# EAGLE library part MCP4725A0T-E/CH (library dummy-load)
MCP4725 Series 1 Ch I2C EEPROM Memory 5.5 V 12-Bit D/A Converter SMT - SOT-23-6 Check prices <https://pricing.snapeda.com/parts/MCP4725A0T-E/CH/Microchip%20Technology/view-part?ref=eda>
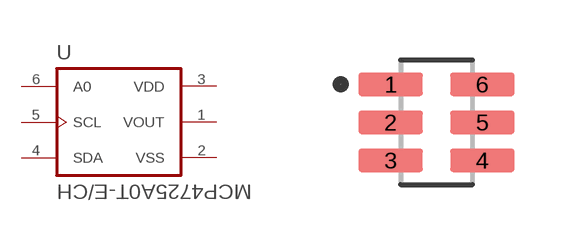
[diagram p1: symbol with the pads of SOT95P270X145-6N; footprint SOT95P270X145-6N]

Designator prefix U

## MCP4725A0T-E/CH (AVAILABILITY: Warning; DESCRIPTION: 12 Bit Digital to Analog Converter 1 SOT-23-6; MF: Microchip Technology; MP: MCP4725A0T-E/CH; PACKAGE: SOT-23-6 Microchip; PRICE: None; PURCHASE-URL: https://pricing.snapeda.com/search/part/MCP4725A0T-E/CH/?ref=eda)  [SOT95P270X145-6N]
1  VOUT  out
2  VSS  pwr
3  VDD  pwr
4  SDA
5  SCL  in
6  A0  in

## Footprint SOT95P270X145-6N (pad centres in mm)
smd 1.61 x 0.59: 1 -1.145,0.95; 2 -1.145,0; 3 -1.145,-0.95; 4 1.145,-0.95; 5 1.145,0; 6 1.145,0.95